# Altium footprint library 2012670005.PcbLib: 1 footprints
Each footprint in its own frame and in the unit in brackets; x right, y up, seen from the top. Pads: shape width x height; smd on the part's side, far side on the other; paste and mask are expansions set on the pad; w line width, h text height; cw(c..) or ccw(c..) is an arc to the next point about the centre after c.
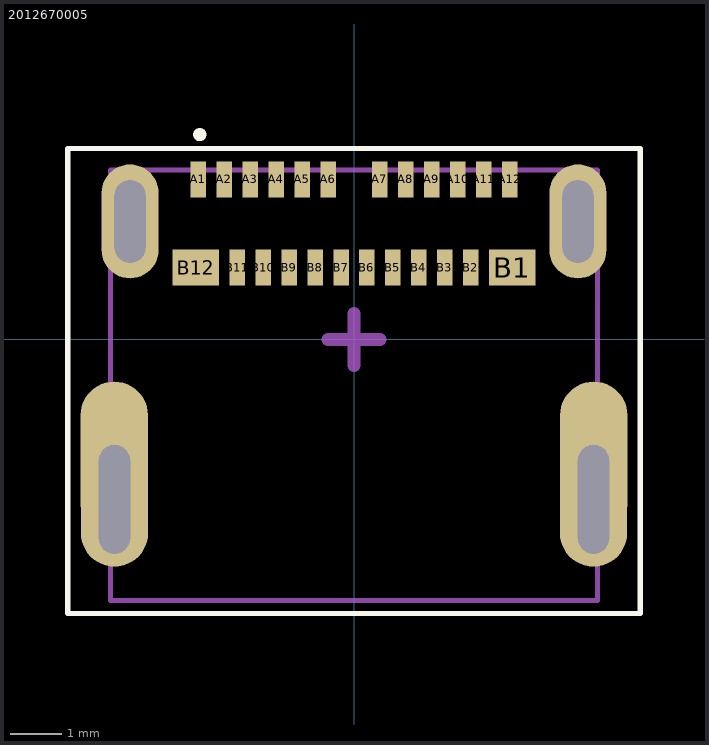
[diagram p0: the footprint, top view; thin cyan lines are the x and y axes]

## 2012670005 [mm]
pads (30):
  rect 0.3x0.7 smd mask+0.051: A1(-3,3.085) A2(-2.5,3.085) A3(-2,3.085) A4(-1.5,3.085) A5(-1,3.085) A6(-0.5,3.085) A7(0.5,3.085) A8(1,3.085) A9(1.5,3.085) A10(2,3.085) A11(2.5,3.085) A12(3,3.085) B2(2.25,1.385) B3(1.75,1.385) B4(1.25,1.385) B5(0.75,1.385) B6(0.25,1.385) B7(-0.25,1.385) B8(-0.75,1.385) B9(-1.25,1.385) B10(-1.75,1.385) B11(-2.25,1.385)
  rect 0.9x0.7 smd mask+0.051: B1(3.05,1.385) B12(-3.05,1.385)
  oval 1.3x3.025 all layers, no hole mask+0.051: ""(-4.625,-2.325) ""(4.625,-2.325)
  oval 1.3x2.6 hole 0.6 slot 2.1 at 90 deg mask+0.051: ""(-4.62,-3.085) ""(4.62,-3.085)
  oval 1.1x2.2 hole 0.6 slot 1.6 at 90 deg mask+0.051: ""(-4.32,2.275) ""(4.32,2.275)
Top Overlay:
  circle w0.254: c-2.975,3.95 r0
  lines w0.1: -5.52,-5.285 -5.52,3.685 5.52,3.685 5.52,-5.285 -5.52,-5.285
Mechanical 13:
  lines w0.1: -4.695,-5.035 4.695,-5.035 4.695,3.265 -4.695,3.265 -4.695,-5.035
Mechanical 15:
  lines w0.25: -0.5,0 0,0 ; 0,-0.5 0,0 ; 0,0.5 0,0 ; 0.5,0 0,0
3D body "2012670005.stp": height 3.82, standoff -2.19, extent -4.695,-5.035 4.695,3.265